# Altium footprint library PCB1p.PcbLib: 28 footprints (part 1 of 2)
Each footprint in its own frame and in the unit in brackets; x right, y up, seen from the top. Pads: shape width x height; smd on the part's side, far side on the other; paste and mask are expansions set on the pad; w line width, h text height; cw(c..) or ccw(c..) is an arc to the next point about the centre after c.
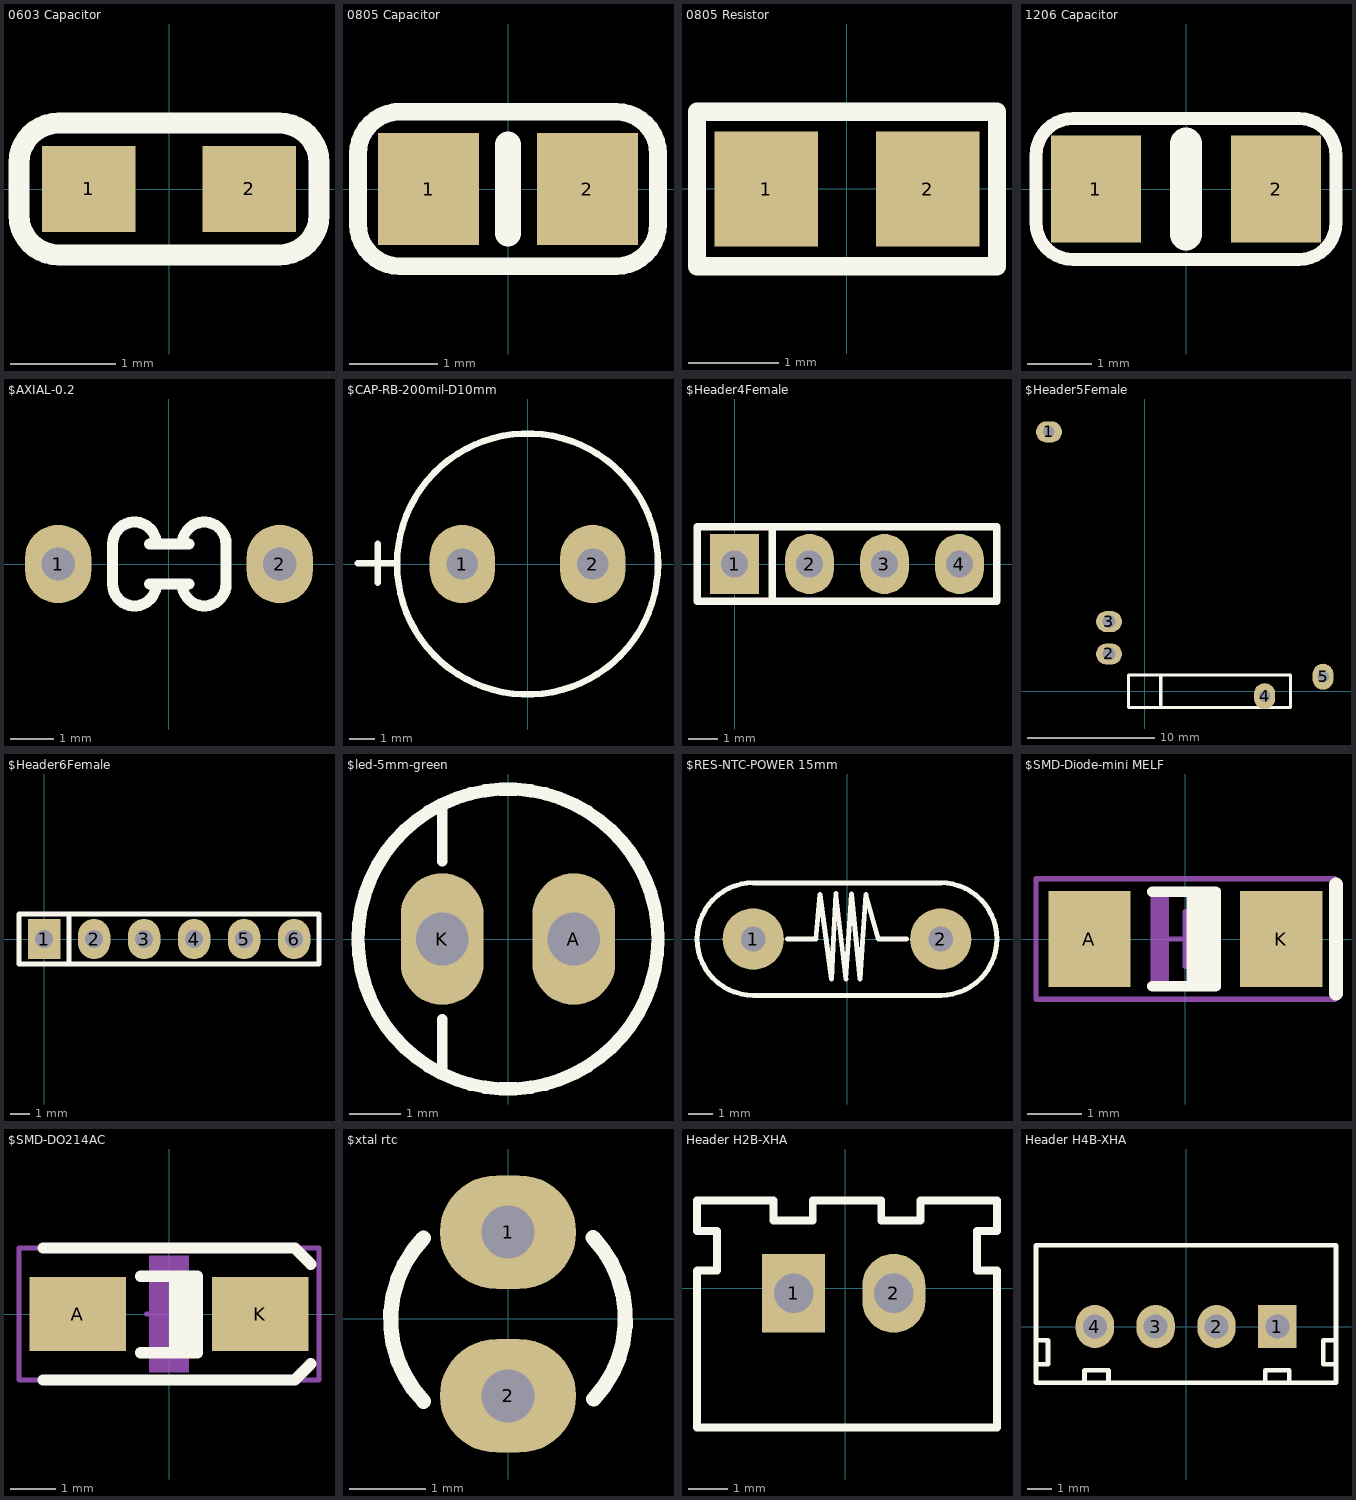
[diagram p0: the footprints below, top view; thin cyan lines are the x and y axes]

## 0603 Capacitor [mil]
height 62.99
pads (2):
  rect 35x32 smd: 1(-29.99,0.01) 2(30.01,0.01)
Top Overlay:
  lines w7.87: -56.1,-9.84 ccw(c-41.34,-9.84) -41.34,-24.61 41.34,-24.61 ccw(c41.34,-9.84) 56.1,-9.84 56.1,9.84 ccw(c41.34,9.84) 41.34,24.61 -41.34,24.61 ccw(c-41.34,9.84) -56.1,9.84 -56.1,-9.84
3D body "SW3dPS-0603 SMD Capacitor.STEP": height 11.89, standoff 0, extent -31.49,-15.74 31.5,15.75

## 0805 Capacitor [mm]
height 2.38
pads (2):
  rect 1.143x1.27 smd: 1(-0.9,0) 2(0.9,0)
Top Overlay:
  lines w0.2: -1.275,0.875 1.225,0.875 cw(c1.225,0.4) 1.7,0.4 1.7,-0.4 cw(c1.225,-0.4) 1.225,-0.875 -1.225,-0.875 cw(c-1.225,-0.4) -1.7,-0.4 -1.7,0.4 cw(c-1.225,0.4) -1.225,0.875
  lines w0.3: 0,-0.5 0,0.5
3D body "SW3dPS-0805 SMD Capacitor.STEP": height 0.78, standoff 0, extent -1,-0.625 1,0.625

## 0805 Resistor [mil]
height 93.7
pads (2):
  rect 45x50 smd: 1(-35,0) 2(35,0)
Top Overlay:
  lines w7.87: -65,-33.46 65,-33.46 65,33.46 -65,33.46 -65,-33.46
3D body "User Library-RESC2012X05N.STEP": height 17.76, standoff 0, extent -39.36,-24.6 39.38,24.61

## 1206 Capacitor [mil]
height 93.7
pads (2):
  rect 55x65 smd: 1(-55,0) 2(55,0)
Top Overlay:
  lines w7.87: -91.54,-20.4 ccw(c-68.9,-20.4) -68.9,-43.03 68.89,-43.03 ccw(c68.89,-20.39) 91.53,-20.39 91.53,20.4 ccw(c68.89,20.4) 68.89,43.04 -68.9,43.03 ccw(c-68.9,20.4) -91.54,20.4 -91.54,-20.4
  lines w19.68: 0,-27.56 0,27.56
3D body "SW3dPS-1206 SMD Capacitor.STEP": height 39.45, standoff 0, extent -62.99,-31.5 63,31.5

## $AXIAL-0.2 [mil]
height 55.12
pads (2):
  oval 60x70.87 hole 30: 1(-100,0) 2(100,0)
Top Overlay:
  lines w9.84: -50.89,-18.19 -50.89,18.19 ; -17.52,-18.19 18.11,-18.19 ; -17.52,18.19 18.11,18.19 ; 51.48,-18.19 51.48,18.19
  lines w10: -50.89,-18.19 ccw(c-31.2,-18.19) -11.52,-18.19 ; -50.89,18.19 cw(c-31.2,18.19) -11.52,18.19 ; 12.11,-18.19 ccw(c31.8,-18.19) 51.48,-18.19 ; 12.11,18.19 cw(c31.8,18.19) 51.48,18.19
3D body "User Library-Resistencia-2.STEP": height 73.4, standoff -60, extent -110,-33.4 110,33.4

## $CAP-RB-200mil-D10mm [mil] "ALUMINUM ELECTROLYTIC CAPACITORS"
height 93.7
pads (2):
  oval 100x120 hole 48: 1(-100,0) 2(100,0)
Top Overlay:
  circle w10: c0,0 r200
  lines w10: -259.83,1.18 -199.83,1.18 ; -229.43,-28.82 -229.43,31.18
3D body "SW3dPS-Cap electro 10x12.5x5.0mm.STEP": height 512.81, standoff -136.91, extent -198.62,-199.7 196.7,196

## $Header4Female [mil]
height 93.7
pads (4):
  rect 65x80 hole 35.43: 1(0,0)
  oval 65x80 hole 35.43: 2(100,0) 3(200,0) 4(300,0)
Top Overlay:
  lines w10: 50,-50 50,50 ; -50,-50 -50,50 350,50 350,-50 -50,-50
3D body: height 300, standoff -100, extent 285,-15 315,15
3D body: height 300, standoff -100, extent 185,-15 215,15
3D body: height 300, standoff -100, extent 85,-15 115,15
3D body: height 300, standoff -100, extent -15,-15 15,15
3D body: height 350, standoff 0, extent -50,-50 350,50

## $Header5Female [mil]
height 62.99
pads (5):
  oval 80x65 hole 35.43: 1(-295,800)
  oval 80x65 hole 40: 2(-110,115) 3(-110,215)
  oval 65x80 hole 35.43: 4(370,-15) 5(550,45)
Top Overlay:
  lines w10: 50,-50 50,50 ; -50,-50 450,-50 450,50 -50,50 -50,-50
3D body: height 300, standoff -100, extent 385.12,-14.96 415,14.98
3D body: height 300, standoff -100, extent 285.12,-14.96 315,14.98
3D body: height 300, standoff -100, extent 185.12,-14.96 215,14.98
3D body: height 300, standoff -100, extent 85.12,-14.96 115,14.98
3D body: height 300, standoff -100, extent -14.88,-14.96 15,14.98
3D body: height 350, standoff 0, extent -50,-50 450,50

## $Header6Female [mil]
height 93.7
pads (6):
  rect 65x80 hole 35.43: 1(0,0)
  oval 65x80 hole 35.43: 2(100,0) 3(200,0) 4(300,0) 5(400,0) 6(500,0)
Top Overlay:
  lines w10: 50,-50 50,50 ; -50,-50 550,-50 550,50 -50,50 -50,-50
3D body: height 300, standoff -100, extent 485,-15 515,15
3D body: height 300, standoff -100, extent 385,-15 415,15
3D body: height 300, standoff -100, extent 285,-15 315,15
3D body: height 300, standoff -100, extent 185,-15 215,15
3D body: height 300, standoff -100, extent 85,-15 115,15
3D body: height 300, standoff -100, extent -15,-15 15,15
3D body: height 350, standoff 0, extent -50,-50 550,50

## $led-5mm-green [mm]
height 2.38
pads (2):
  oval 1.6x2.54 hole 1.016: A(1.27,0) K(-1.27,0)
Top Overlay:
  circle w0.254: c0,0 r2.896
  lines w0.203: -1.27,-2.616 -1.27,-1.549 ; -1.27,1.499 -1.27,2.591
3D body "SW3dPS-LEDd5G.STEP": height 12.31, standoff -2.49, extent -2.456,-2.997 2.964,3.022

## $RES-NTC-POWER 15mm [mm]
height 2.38
pads (2):
  round 2.5 hole 1: 1(-3.81,0) 2(3.81,0)
Top Overlay:
  lines w0.2: -3.81,-2.286 cw(c-3.81,0) -3.81,2.286 ; -2.413,0 -1.27,0 ; 1.27,0 2.413,0 ; 3.81,-2.286 ccw(c3.81,0) 3.81,2.286
  lines w0.203: -3.81,-2.286 3.81,-2.286 ; -3.81,2.286 3.81,2.286 ; -1.27,0 -1.092,1.803 -0.635,-1.626 -0.457,1.854 -0.051,-1.626 0.178,1.829 0.533,-1.626 0.762,1.803 1.27,0
3D body "SW3dPS-JVR10N331k_vertical-1.STEP": height 11.49, standoff -3.01, extent -5.499,-1.761 5.5,1.751

## $SMD-Diode-mini MELF [mil]
height 62.99
pads (2):
  rect 60x70 smd: A(-70,0) K(70,0)
Top Overlay:
  region: 22.56,34.45 0.91,34.45 0.91,-34.45 22.56,-34.45
  lines w7.87: -24,-34.45 22,-34.45 22,34.45 -24,34.45
  lines w10: 110,-40 110,40
Mechanical 2:
  region: -11.81,37.4 -25.59,37.4 -25.59,-37.4 -11.81,-37.4
  rectangle: 11.81,-37.4 25.59,37.4
Mechanical 15:
  lines w4: -20,0 20,0 ; 0,-20 0,20 ; -109.06,-44.09 -109.06,44.09 109.06,44.09 109.06,-44.09 -109.06,-44.09
3D body "User Library-SOD80C-1.STEP": height 63.78, standoff 0.79, extent -77.84,-33 67.83,30

## $SMD-DO214AC [mil]
height 93.7
pads (2):
  rect 85x65 smd: A(-80,0) K(80,0)
Top Overlay:
  region: 25,33 0,33 0,-34 25,-34
  lines w10: -110.24,-57.87 110.24,-57.87 124.41,-43.7 ; -110.24,57.87 110.24,57.87 124.41,43.7 ; -25,-34 25,-34 25,33 -25,33
Mechanical 2:
  region: 17.72,51.16 -17.72,51.16 -17.72,-51.2 17.72,-51.2
Mechanical 15:
  lines w4: -20,0 20,0 ; 0,-20 0,20 ; -131.5,-57.87 -131.5,57.87 131.5,57.87 131.5,-57.87 -131.5,-57.87
3D body "User Library-DO-214AC_SMA.STEP": height 85.69, standoff -0.97, extent -100.43,-53.03 96.42,53.26

## $xtal rtc [mm]
height 1.6
pads (2):
  oval 1.8x1.5 hole 0.7: 1(0,1.143) 2(0,-1.016)
Top Overlay:
  lines w0.2: -1.116,1.065 ccw(c0,-0.01) -1.114,-1.088 ; 1.121,1.071 cw(c0,0) 1.132,-1.058
3D body "Crystal TH.STEP": height 8.98, standoff -1.8, extent -1.6,-1.725 1.588,1.725

## Header H2B-XHA [mm]
height 2.38
pads (2):
  rect 1.6x2 hole 1: 1(-1.305,-0.125)
  oval 1.6x2 hole 1: 2(1.235,-0.125)
Top Overlay:
  lines w0.2: -3.25,1.45 -3.755,1.45 -3.755,2.225 -1.82,2.225 -1.82,1.72 -0.82,1.72 -0.82,2.225 0.915,2.225 0.915,1.72 1.915,1.72 1.915,2.225 3.85,2.225 3.85,1.45 3.345,1.45 3.345,0.45 3.85,0.45 3.85,-3.525 -3.755,-3.525 -3.755,0.445 -3.75,0.45 -3.245,0.45 -3.245,1.45
3D body "User Library-XH_Right.STEP": height 7, standoff -3.5, extent -4,-3.65 0.05,2.35
3D body "User Library-XH_Left.STEP": height 7, standoff -3.5, extent 0.05,-3.65 4.1,2.35

## Header H4B-XHA [mm]
height 1.6
pads (4):
  rect 1.6x1.8 hole 1: 1(3.81,0)
  oval 1.6x1.8 hole 1: 2(1.27,0) 3(-1.27,0) 4(-3.81,0)
Top Overlay:
  lines w0.2: -6.27,-2.35 -6.27,3.4 ; -6.27,-1.575 -5.765,-1.575 -5.765,-0.575 -6.27,-0.575 ; -6.24,-2.35 6.26,-2.35 6.26,3.4 -6.24,3.4 ; -4.24,-2.33 -4.24,-1.825 -3.24,-1.825 -3.24,-2.33 ; 3.305,-2.33 3.305,-1.825 4.305,-1.825 4.305,-2.33 ; 6.235,-1.575 5.73,-1.575 5.73,-0.575 6.235,-0.575
3D body "User Library-XH_Left.STEP": height 7, standoff -3.5, extent -6.515,-2.475 -2.465,3.525
3D body "User Library-XH_Mid.STEP": height 7, standoff -3.5, extent -0.045,-2.475 2.455,3.525
3D body "User Library-XH_Right.STEP": height 7, standoff -3.5, extent 2.455,-2.475 6.505,3.525
3D body "User Library-XH_Mid.STEP": height 7, standoff -3.5, extent -2.545,-2.475 -0.045,3.525